# Altium schematic symbol library RFD900UX Module.SCHLIB: 1 symbol
Pins are listed as number, name and electrical type; pins without a type are passive.

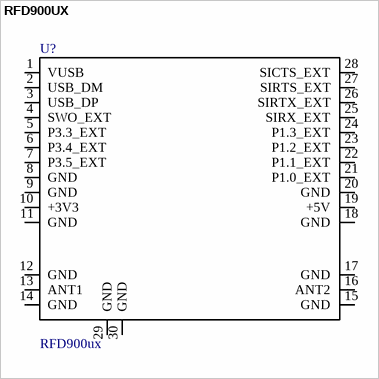
[diagram p0: symbol RFD900UX]

## RFD900UX
designator U?, comment RFD900ux
RFD900UX including programming pads; DPN: N/A; MPN: N/A; Cost: 0
footprint RFD900UX (footprint for 900UX Module)
pins: 1 VUSB, 2 USB_DM, 3 USB_DP, 4 SWO_EXT, 5 P3.3_EXT, 6 P3.4_EXT, 7 P3.5_EXT, 8 GND, 9 GND, 10 +3V3, 11 GND, 12 GND, 13 ANT1, 14 GND, 15 GND, 16 ANT2, 17 GND, 18 GND, 19 +5V, 20 GND, 21 P1.0_EXT, 22 P1.1_EXT, 23 P1.2_EXT, 24 P1.3_EXT, 25 SIRX_EXT, 26 SIRTX_EXT, 27 SIRTS_EXT, 28 SICTS_EXT, 29 GND, 30 GND